# Altium footprint library Package_DIP.PcbLib: 281 footprints (part 13 of 18)
Each footprint in its own frame and in the unit in brackets; x right, y up, seen from the top. Pads: shape width x height; smd on the part's side, far side on the other; paste and mask are expansions set on the pad; w line width, h text height; cw(c..) or ccw(c..) is an arc to the next point about the centre after c.
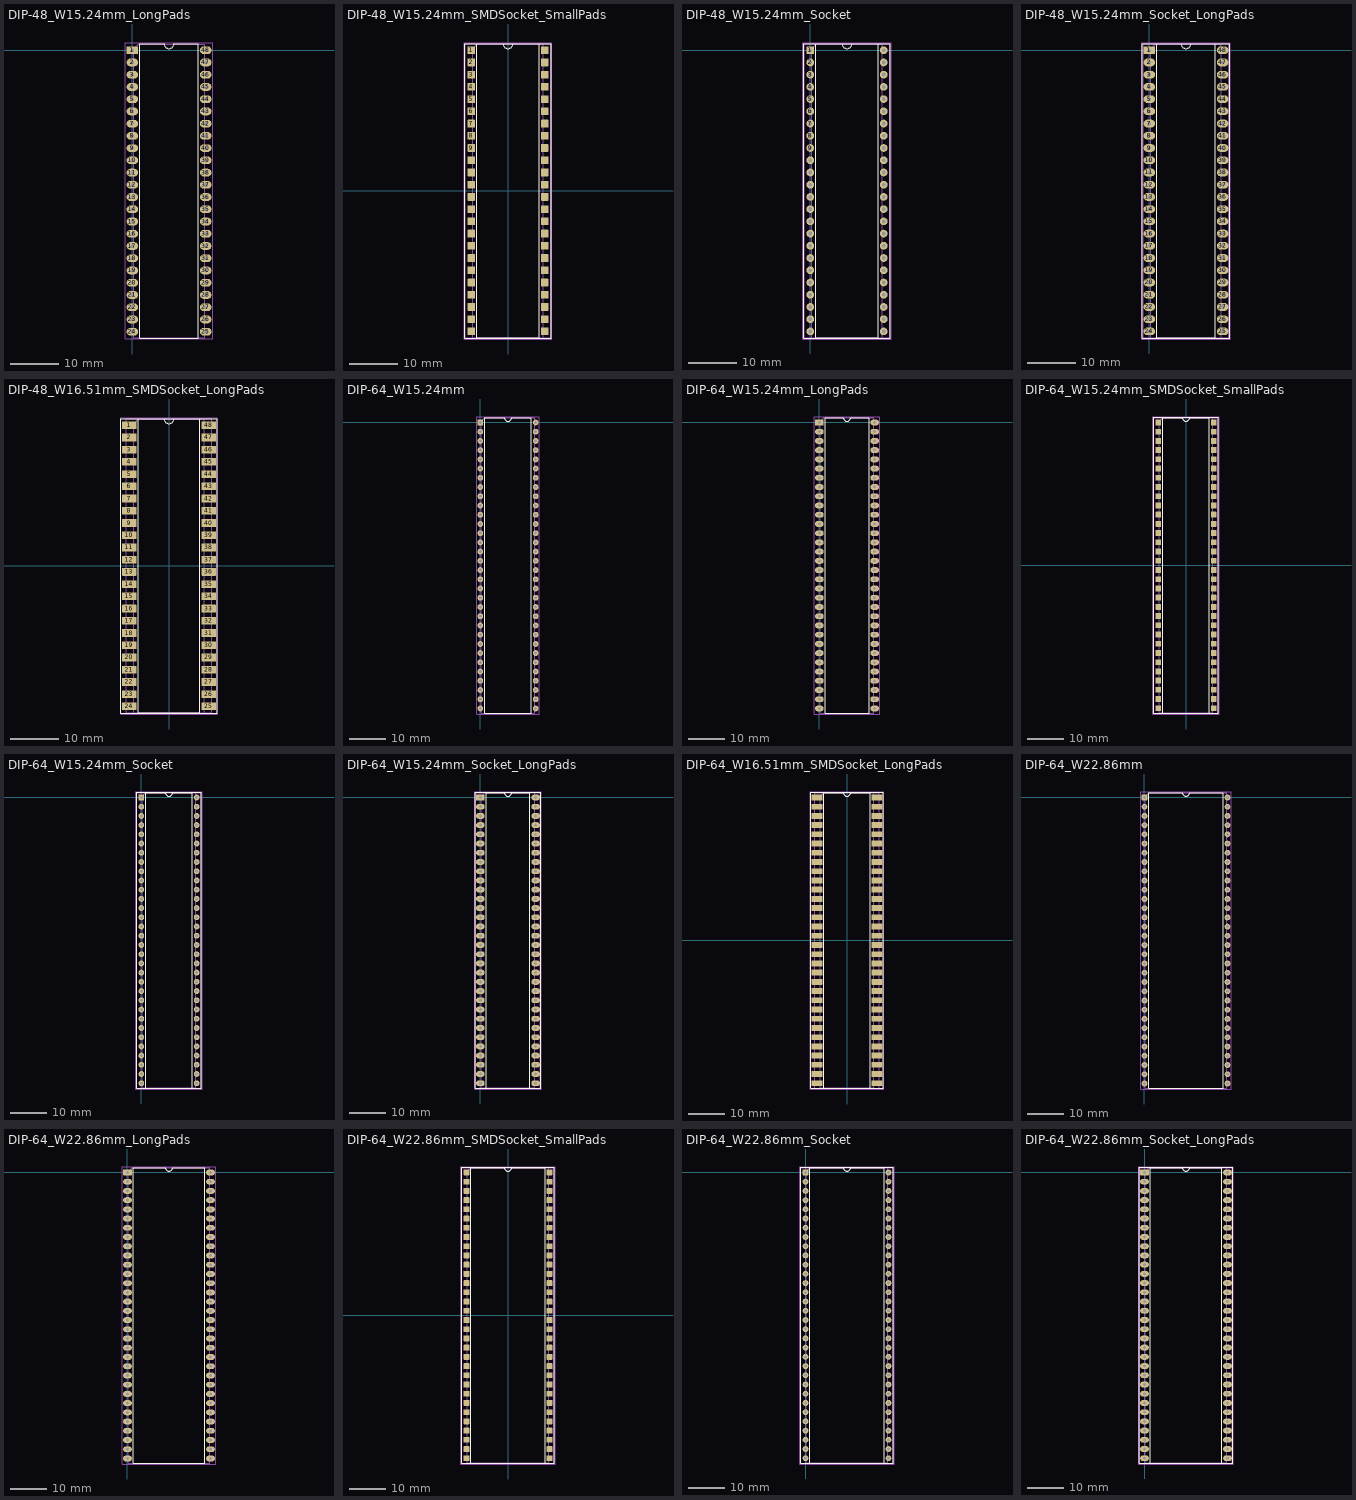
[diagram p12: the footprints below, top view; thin cyan lines are the x and y axes]

## DIP-48_W15.24mm_LongPads [mm]
pads (48):
  rrect16% 2.4x1.6 hole 0.8: 1(0,0)
  rrect100% 2.4x1.6 hole 0.8: 2(0,-2.54) 3(0,-5.08) 4(0,-7.62) 5(0,-10.16) 6(0,-12.7) 7(0,-15.24) 8(0,-17.78) 9(0,-20.32) 10(0,-22.86) 11(0,-25.4) 12(0,-27.94) 13(0,-30.48) 14(0,-33.02) 15(0,-35.56) 16(0,-38.1) 17(0,-40.64) 18(0,-43.18) 19(0,-45.72) 20(0,-48.26) 21(0,-50.8) 22(0,-53.34) 23(0,-55.88) 24(0,-58.42) 25(15.24,-58.42) 26(15.24,-55.88) 27(15.24,-53.34) 28(15.24,-50.8) 29(15.24,-48.26) 30(15.24,-45.72) 31(15.24,-43.18) 32(15.24,-40.64) 33(15.24,-38.1) 34(15.24,-35.56) 35(15.24,-33.02) 36(15.24,-30.48) 37(15.24,-27.94) 38(15.24,-25.4) 39(15.24,-22.86) 40(15.24,-20.32) 41(15.24,-17.78) 42(15.24,-15.24) 43(15.24,-12.7) 44(15.24,-10.16) 45(15.24,-7.62) 46(15.24,-5.08) 47(15.24,-2.54) 48(15.24,0)
F.SilkS:
  lines w0.254: 1.56,-59.75 13.68,-59.75 13.68,1.33 8.62,1.33 cw(c7.62,1.33) 6.62,1.33 1.56,1.33 1.56,-59.75
Top Assembly:
  lines w0.254: 0.255,-59.69 14.985,-59.69 14.985,1.27 1.255,1.27 0.255,0.27 0.255,-59.69
  text "'.Designator'" at 8.46,-33.257 h1
Top Courtyard:
  lines w0.254: -1.46,-59.94 16.69,-59.94 16.69,1.53 -1.46,1.53 -1.46,-59.94
Top Designator:
  text ".Designator" at -0.003,-29.713 h1.52

## DIP-48_W15.24mm_SMDSocket_SmallPads [mm]
pads (48):
  rrect16% 1.6x1.6 smd: 1(-7.62,29.21) 2(-7.62,26.67) 3(-7.62,24.13) 4(-7.62,21.59) 5(-7.62,19.05) 6(-7.62,16.51) 7(-7.62,13.97) 8(-7.62,11.43) 9(-7.62,8.89) 10(-7.62,6.35) 11(-7.62,3.81) 12(-7.62,1.27) 13(-7.62,-1.27) 14(-7.62,-3.81) 15(-7.62,-6.35) 16(-7.62,-8.89) 17(-7.62,-11.43) 18(-7.62,-13.97) 19(-7.62,-16.51) 20(-7.62,-19.05) 21(-7.62,-21.59) 22(-7.62,-24.13) 23(-7.62,-26.67) 24(-7.62,-29.21) 25(7.62,-29.21) 26(7.62,-26.67) 27(7.62,-24.13) 28(7.62,-21.59) 29(7.62,-19.05) 30(7.62,-16.51) 31(7.62,-13.97) 32(7.62,-11.43) 33(7.62,-8.89) 34(7.62,-6.35) 35(7.62,-3.81) 36(7.62,-1.27) 37(7.62,1.27) 38(7.62,3.81) 39(7.62,6.35) 40(7.62,8.89) 41(7.62,11.43) 42(7.62,13.97) 43(7.62,16.51) 44(7.62,19.05) 45(7.62,21.59) 46(7.62,24.13) 47(7.62,26.67) 48(7.62,29.21)
F.SilkS:
  lines w0.254: -8.95,-30.6 8.95,-30.6 8.95,30.6 -8.95,30.6 -8.95,-30.6 ; -6.46,-30.54 6.46,-30.54 6.46,30.54 1,30.54 cw(c0,30.54) -1,30.54 -6.46,30.54 -6.46,-30.54
Top Assembly:
  lines w0.254: -8.89,-30.54 8.89,-30.54 8.89,30.54 -8.89,30.54 -8.89,-30.54 ; -7.365,-30.48 7.365,-30.48 7.365,30.48 -6.365,30.48 -7.365,29.48 -7.365,-30.48
  text "'.Designator'" at 0.84,-4.047 h1
Top Courtyard:
  lines w0.254: -9.14,-30.79 9.14,-30.79 9.14,30.79 -9.14,30.79 -9.14,-30.79
Top Designator:
  text ".Designator" at -7.618,-0.508 h1.52

## DIP-48_W15.24mm_Socket [mm]
pads (48):
  rrect16% 1.6x1.6 hole 0.8: 1(0,0)
  round 1.6 hole 0.8: 2(0,-2.54) 3(0,-5.08) 4(0,-7.62) 5(0,-10.16) 6(0,-12.7) 7(0,-15.24) 8(0,-17.78) 9(0,-20.32) 10(0,-22.86) 11(0,-25.4) 12(0,-27.94) 13(0,-30.48) 14(0,-33.02) 15(0,-35.56) 16(0,-38.1) 17(0,-40.64) 18(0,-43.18) 19(0,-45.72) 20(0,-48.26) 21(0,-50.8) 22(0,-53.34) 23(0,-55.88) 24(0,-58.42) 25(15.24,-58.42) 26(15.24,-55.88) 27(15.24,-53.34) 28(15.24,-50.8) 29(15.24,-48.26) 30(15.24,-45.72) 31(15.24,-43.18) 32(15.24,-40.64) 33(15.24,-38.1) 34(15.24,-35.56) 35(15.24,-33.02) 36(15.24,-30.48) 37(15.24,-27.94) 38(15.24,-25.4) 39(15.24,-22.86) 40(15.24,-20.32) 41(15.24,-17.78) 42(15.24,-15.24) 43(15.24,-12.7) 44(15.24,-10.16) 45(15.24,-7.62) 46(15.24,-5.08) 47(15.24,-2.54) 48(15.24,0)
F.SilkS:
  lines w0.254: -1.33,-59.81 16.57,-59.81 16.57,1.39 -1.33,1.39 -1.33,-59.81 ; 1.16,-59.75 14.08,-59.75 14.08,1.33 8.62,1.33 cw(c7.62,1.33) 6.62,1.33 1.16,1.33 1.16,-59.75
Top Assembly:
  lines w0.254: -1.27,-59.75 16.51,-59.75 16.51,1.33 -1.27,1.33 -1.27,-59.75 ; 0.255,-59.69 14.985,-59.69 14.985,1.27 1.255,1.27 0.255,0.27 0.255,-59.69
  text "'.Designator'" at 8.46,-33.257 h1
Top Courtyard:
  lines w0.254: -1.53,-60 16.77,-60 16.77,1.59 -1.53,1.59 -1.53,-60
Top Designator:
  text ".Designator" at 0.002,-29.713 h1.52

## DIP-48_W15.24mm_Socket_LongPads [mm]
pads (48):
  rrect16% 2.4x1.6 hole 0.8: 1(0,0)
  rrect100% 2.4x1.6 hole 0.8: 2(0,-2.54) 3(0,-5.08) 4(0,-7.62) 5(0,-10.16) 6(0,-12.7) 7(0,-15.24) 8(0,-17.78) 9(0,-20.32) 10(0,-22.86) 11(0,-25.4) 12(0,-27.94) 13(0,-30.48) 14(0,-33.02) 15(0,-35.56) 16(0,-38.1) 17(0,-40.64) 18(0,-43.18) 19(0,-45.72) 20(0,-48.26) 21(0,-50.8) 22(0,-53.34) 23(0,-55.88) 24(0,-58.42) 25(15.24,-58.42) 26(15.24,-55.88) 27(15.24,-53.34) 28(15.24,-50.8) 29(15.24,-48.26) 30(15.24,-45.72) 31(15.24,-43.18) 32(15.24,-40.64) 33(15.24,-38.1) 34(15.24,-35.56) 35(15.24,-33.02) 36(15.24,-30.48) 37(15.24,-27.94) 38(15.24,-25.4) 39(15.24,-22.86) 40(15.24,-20.32) 41(15.24,-17.78) 42(15.24,-15.24) 43(15.24,-12.7) 44(15.24,-10.16) 45(15.24,-7.62) 46(15.24,-5.08) 47(15.24,-2.54) 48(15.24,0)
F.SilkS:
  lines w0.254: -1.44,-59.81 16.68,-59.81 16.68,1.39 -1.44,1.39 -1.44,-59.81 ; 1.56,-59.75 13.68,-59.75 13.68,1.33 8.62,1.33 cw(c7.62,1.33) 6.62,1.33 1.56,1.33 1.56,-59.75
Top Assembly:
  lines w0.254: -1.27,-59.75 16.51,-59.75 16.51,1.33 -1.27,1.33 -1.27,-59.75 ; 0.255,-59.69 14.985,-59.69 14.985,1.27 1.255,1.27 0.255,0.27 0.255,-59.69
  text "'.Designator'" at 8.46,-33.257 h1
Top Courtyard:
  lines w0.254: -1.53,-60 16.77,-60 16.77,1.59 -1.53,1.59 -1.53,-60
Top Designator:
  text ".Designator" at 0.002,-29.713 h1.52

## DIP-48_W16.51mm_SMDSocket_LongPads [mm]
pads (48):
  rrect16% 3.1x1.6 smd: 1(-8.255,29.21) 2(-8.255,26.67) 3(-8.255,24.13) 4(-8.255,21.59) 5(-8.255,19.05) 6(-8.255,16.51) 7(-8.255,13.97) 8(-8.255,11.43) 9(-8.255,8.89) 10(-8.255,6.35) 11(-8.255,3.81) 12(-8.255,1.27) 13(-8.255,-1.27) 14(-8.255,-3.81) 15(-8.255,-6.35) 16(-8.255,-8.89) 17(-8.255,-11.43) 18(-8.255,-13.97) 19(-8.255,-16.51) 20(-8.255,-19.05) 21(-8.255,-21.59) 22(-8.255,-24.13) 23(-8.255,-26.67) 24(-8.255,-29.21) 25(8.255,-29.21) 26(8.255,-26.67) 27(8.255,-24.13) 28(8.255,-21.59) 29(8.255,-19.05) 30(8.255,-16.51) 31(8.255,-13.97) 32(8.255,-11.43) 33(8.255,-8.89) 34(8.255,-6.35) 35(8.255,-3.81) 36(8.255,-1.27) 37(8.255,1.27) 38(8.255,3.81) 39(8.255,6.35) 40(8.255,8.89) 41(8.255,11.43) 42(8.255,13.97) 43(8.255,16.51) 44(8.255,19.05) 45(8.255,21.59) 46(8.255,24.13) 47(8.255,26.67) 48(8.255,29.21)
F.SilkS:
  lines w0.254: -10.045,-30.6 10.045,-30.6 10.045,30.6 -10.045,30.6 -10.045,-30.6 ; -6.345,-30.54 6.345,-30.54 6.345,30.54 1,30.54 cw(c0,30.54) -1,30.54 -6.345,30.54 -6.345,-30.54
Top Assembly:
  lines w0.254: -8.89,-30.54 8.89,-30.54 8.89,30.54 -8.89,30.54 -8.89,-30.54 ; -7.365,-30.48 7.365,-30.48 7.365,30.48 -6.365,30.48 -7.365,29.48 -7.365,-30.48
  text "'.Designator'" at 0.84,-4.047 h1
Top Courtyard:
  lines w0.254: -10.06,-30.79 10.06,-30.79 10.06,30.79 -10.06,30.79 -10.06,-30.79
Top Designator:
  text ".Designator" at -7.618,-0.508 h1.52

## DIP-64_W15.24mm [mm]
pads (64):
  rrect16% 1.6x1.6 hole 0.8: 1(0,0)
  round 1.6 hole 0.8: 2(0,-2.54) 3(0,-5.08) 4(0,-7.62) 5(0,-10.16) 6(0,-12.7) 7(0,-15.24) 8(0,-17.78) 9(0,-20.32) 10(0,-22.86) 11(0,-25.4) 12(0,-27.94) 13(0,-30.48) 14(0,-33.02) 15(0,-35.56) 16(0,-38.1) 17(0,-40.64) 18(0,-43.18) 19(0,-45.72) 20(0,-48.26) 21(0,-50.8) 22(0,-53.34) 23(0,-55.88) 24(0,-58.42) 25(0,-60.96) 26(0,-63.5) 27(0,-66.04) 28(0,-68.58) 29(0,-71.12) 30(0,-73.66) 31(0,-76.2) 32(0,-78.74) 33(15.24,-78.74) 34(15.24,-76.2) 35(15.24,-73.66) 36(15.24,-71.12) 37(15.24,-68.58) 38(15.24,-66.04) 39(15.24,-63.5) 40(15.24,-60.96) 41(15.24,-58.42) 42(15.24,-55.88) 43(15.24,-53.34) 44(15.24,-50.8) 45(15.24,-48.26) 46(15.24,-45.72) 47(15.24,-43.18) 48(15.24,-40.64) 49(15.24,-38.1) 50(15.24,-35.56) 51(15.24,-33.02) 52(15.24,-30.48) 53(15.24,-27.94) 54(15.24,-25.4) 55(15.24,-22.86) 56(15.24,-20.32) 57(15.24,-17.78) 58(15.24,-15.24) 59(15.24,-12.7) 60(15.24,-10.16) 61(15.24,-7.62) 62(15.24,-5.08) 63(15.24,-2.54) 64(15.24,0)
F.SilkS:
  lines w0.254: 1.16,-80.07 14.08,-80.07 14.08,1.33 8.62,1.33 cw(c7.62,1.33) 6.62,1.33 1.16,1.33 1.16,-80.07
Top Assembly:
  lines w0.254: 0.255,-80.01 14.985,-80.01 14.985,1.27 1.255,1.27 0.255,0.27 0.255,-80.01
  text "'.Designator'" at 8.46,-43.417 h1
Top Courtyard:
  lines w0.254: -1.05,-80.26 16.29,-80.26 16.29,1.52 -1.05,1.52 -1.05,-80.26
Top Designator:
  text ".Designator" at 0.002,-39.878 h1.52

## DIP-64_W15.24mm_LongPads [mm]
pads (64):
  rrect16% 2.4x1.6 hole 0.8: 1(0,0)
  rrect100% 2.4x1.6 hole 0.8: 2(0,-2.54) 3(0,-5.08) 4(0,-7.62) 5(0,-10.16) 6(0,-12.7) 7(0,-15.24) 8(0,-17.78) 9(0,-20.32) 10(0,-22.86) 11(0,-25.4) 12(0,-27.94) 13(0,-30.48) 14(0,-33.02) 15(0,-35.56) 16(0,-38.1) 17(0,-40.64) 18(0,-43.18) 19(0,-45.72) 20(0,-48.26) 21(0,-50.8) 22(0,-53.34) 23(0,-55.88) 24(0,-58.42) 25(0,-60.96) 26(0,-63.5) 27(0,-66.04) 28(0,-68.58) 29(0,-71.12) 30(0,-73.66) 31(0,-76.2) 32(0,-78.74) 33(15.24,-78.74) 34(15.24,-76.2) 35(15.24,-73.66) 36(15.24,-71.12) 37(15.24,-68.58) 38(15.24,-66.04) 39(15.24,-63.5) 40(15.24,-60.96) 41(15.24,-58.42) 42(15.24,-55.88) 43(15.24,-53.34) 44(15.24,-50.8) 45(15.24,-48.26) 46(15.24,-45.72) 47(15.24,-43.18) 48(15.24,-40.64) 49(15.24,-38.1) 50(15.24,-35.56) 51(15.24,-33.02) 52(15.24,-30.48) 53(15.24,-27.94) 54(15.24,-25.4) 55(15.24,-22.86) 56(15.24,-20.32) 57(15.24,-17.78) 58(15.24,-15.24) 59(15.24,-12.7) 60(15.24,-10.16) 61(15.24,-7.62) 62(15.24,-5.08) 63(15.24,-2.54) 64(15.24,0)
F.SilkS:
  lines w0.254: 1.56,-80.07 13.68,-80.07 13.68,1.33 8.62,1.33 cw(c7.62,1.33) 6.62,1.33 1.56,1.33 1.56,-80.07
Top Assembly:
  lines w0.254: 0.255,-80.01 14.985,-80.01 14.985,1.27 1.255,1.27 0.255,0.27 0.255,-80.01
  text "'.Designator'" at 8.46,-43.417 h1
Top Courtyard:
  lines w0.254: -1.46,-80.26 16.69,-80.26 16.69,1.52 -1.46,1.52 -1.46,-80.26
Top Designator:
  text ".Designator" at -0.003,-39.878 h1.52

## DIP-64_W15.24mm_SMDSocket_SmallPads [mm]
pads (64):
  rrect16% 1.6x1.6 smd: 1(-7.62,39.37) 2(-7.62,36.83) 3(-7.62,34.29) 4(-7.62,31.75) 5(-7.62,29.21) 6(-7.62,26.67) 7(-7.62,24.13) 8(-7.62,21.59) 9(-7.62,19.05) 10(-7.62,16.51) 11(-7.62,13.97) 12(-7.62,11.43) 13(-7.62,8.89) 14(-7.62,6.35) 15(-7.62,3.81) 16(-7.62,1.27) 17(-7.62,-1.27) 18(-7.62,-3.81) 19(-7.62,-6.35) 20(-7.62,-8.89) 21(-7.62,-11.43) 22(-7.62,-13.97) 23(-7.62,-16.51) 24(-7.62,-19.05) 25(-7.62,-21.59) 26(-7.62,-24.13) 27(-7.62,-26.67) 28(-7.62,-29.21) 29(-7.62,-31.75) 30(-7.62,-34.29) 31(-7.62,-36.83) 32(-7.62,-39.37) 33(7.62,-39.37) 34(7.62,-36.83) 35(7.62,-34.29) 36(7.62,-31.75) 37(7.62,-29.21) 38(7.62,-26.67) 39(7.62,-24.13) 40(7.62,-21.59) 41(7.62,-19.05) 42(7.62,-16.51) 43(7.62,-13.97) 44(7.62,-11.43) 45(7.62,-8.89) 46(7.62,-6.35) 47(7.62,-3.81) 48(7.62,-1.27) 49(7.62,1.27) 50(7.62,3.81) 51(7.62,6.35) 52(7.62,8.89) 53(7.62,11.43) 54(7.62,13.97) 55(7.62,16.51) 56(7.62,19.05) 57(7.62,21.59) 58(7.62,24.13) 59(7.62,26.67) 60(7.62,29.21) 61(7.62,31.75) 62(7.62,34.29) 63(7.62,36.83) 64(7.62,39.37)
F.SilkS:
  lines w0.254: -8.95,-40.76 8.95,-40.76 8.95,40.76 -8.95,40.76 -8.95,-40.76 ; -6.46,-40.7 6.46,-40.7 6.46,40.7 1,40.7 cw(c0,40.7) -1,40.7 -6.46,40.7 -6.46,-40.7
Top Assembly:
  lines w0.254: -8.89,-40.7 8.89,-40.7 8.89,40.7 -8.89,40.7 -8.89,-40.7 ; -7.365,-40.64 7.365,-40.64 7.365,40.64 -6.365,40.64 -7.365,39.64 -7.365,-40.64
  text "'.Designator'" at 0.84,-4.047 h1
Top Courtyard:
  lines w0.254: -9.14,-40.95 9.14,-40.95 9.14,40.95 -9.14,40.95 -9.14,-40.95
Top Designator:
  text ".Designator" at -7.618,-0.508 h1.52

## DIP-64_W15.24mm_Socket [mm]
pads (64):
  rrect16% 1.6x1.6 hole 0.8: 1(0,0)
  round 1.6 hole 0.8: 2(0,-2.54) 3(0,-5.08) 4(0,-7.62) 5(0,-10.16) 6(0,-12.7) 7(0,-15.24) 8(0,-17.78) 9(0,-20.32) 10(0,-22.86) 11(0,-25.4) 12(0,-27.94) 13(0,-30.48) 14(0,-33.02) 15(0,-35.56) 16(0,-38.1) 17(0,-40.64) 18(0,-43.18) 19(0,-45.72) 20(0,-48.26) 21(0,-50.8) 22(0,-53.34) 23(0,-55.88) 24(0,-58.42) 25(0,-60.96) 26(0,-63.5) 27(0,-66.04) 28(0,-68.58) 29(0,-71.12) 30(0,-73.66) 31(0,-76.2) 32(0,-78.74) 33(15.24,-78.74) 34(15.24,-76.2) 35(15.24,-73.66) 36(15.24,-71.12) 37(15.24,-68.58) 38(15.24,-66.04) 39(15.24,-63.5) 40(15.24,-60.96) 41(15.24,-58.42) 42(15.24,-55.88) 43(15.24,-53.34) 44(15.24,-50.8) 45(15.24,-48.26) 46(15.24,-45.72) 47(15.24,-43.18) 48(15.24,-40.64) 49(15.24,-38.1) 50(15.24,-35.56) 51(15.24,-33.02) 52(15.24,-30.48) 53(15.24,-27.94) 54(15.24,-25.4) 55(15.24,-22.86) 56(15.24,-20.32) 57(15.24,-17.78) 58(15.24,-15.24) 59(15.24,-12.7) 60(15.24,-10.16) 61(15.24,-7.62) 62(15.24,-5.08) 63(15.24,-2.54) 64(15.24,0)
F.SilkS:
  lines w0.254: -1.33,-80.13 16.57,-80.13 16.57,1.39 -1.33,1.39 -1.33,-80.13 ; 1.16,-80.07 14.08,-80.07 14.08,1.33 8.62,1.33 cw(c7.62,1.33) 6.62,1.33 1.16,1.33 1.16,-80.07
Top Assembly:
  lines w0.254: -1.27,-80.07 16.51,-80.07 16.51,1.33 -1.27,1.33 -1.27,-80.07 ; 0.255,-80.01 14.985,-80.01 14.985,1.27 1.255,1.27 0.255,0.27 0.255,-80.01
  text "'.Designator'" at 8.46,-43.417 h1
Top Courtyard:
  lines w0.254: -1.53,-80.32 16.77,-80.32 16.77,1.58 -1.53,1.58 -1.53,-80.32
Top Designator:
  text ".Designator" at 0.002,-39.878 h1.52

## DIP-64_W15.24mm_Socket_LongPads [mm]
pads (64):
  rrect16% 2.4x1.6 hole 0.8: 1(0,0)
  rrect100% 2.4x1.6 hole 0.8: 2(0,-2.54) 3(0,-5.08) 4(0,-7.62) 5(0,-10.16) 6(0,-12.7) 7(0,-15.24) 8(0,-17.78) 9(0,-20.32) 10(0,-22.86) 11(0,-25.4) 12(0,-27.94) 13(0,-30.48) 14(0,-33.02) 15(0,-35.56) 16(0,-38.1) 17(0,-40.64) 18(0,-43.18) 19(0,-45.72) 20(0,-48.26) 21(0,-50.8) 22(0,-53.34) 23(0,-55.88) 24(0,-58.42) 25(0,-60.96) 26(0,-63.5) 27(0,-66.04) 28(0,-68.58) 29(0,-71.12) 30(0,-73.66) 31(0,-76.2) 32(0,-78.74) 33(15.24,-78.74) 34(15.24,-76.2) 35(15.24,-73.66) 36(15.24,-71.12) 37(15.24,-68.58) 38(15.24,-66.04) 39(15.24,-63.5) 40(15.24,-60.96) 41(15.24,-58.42) 42(15.24,-55.88) 43(15.24,-53.34) 44(15.24,-50.8) 45(15.24,-48.26) 46(15.24,-45.72) 47(15.24,-43.18) 48(15.24,-40.64) 49(15.24,-38.1) 50(15.24,-35.56) 51(15.24,-33.02) 52(15.24,-30.48) 53(15.24,-27.94) 54(15.24,-25.4) 55(15.24,-22.86) 56(15.24,-20.32) 57(15.24,-17.78) 58(15.24,-15.24) 59(15.24,-12.7) 60(15.24,-10.16) 61(15.24,-7.62) 62(15.24,-5.08) 63(15.24,-2.54) 64(15.24,0)
F.SilkS:
  lines w0.254: -1.44,-80.13 16.68,-80.13 16.68,1.39 -1.44,1.39 -1.44,-80.13 ; 1.56,-80.07 13.68,-80.07 13.68,1.33 8.62,1.33 cw(c7.62,1.33) 6.62,1.33 1.56,1.33 1.56,-80.07
Top Assembly:
  lines w0.254: -1.27,-80.07 16.51,-80.07 16.51,1.33 -1.27,1.33 -1.27,-80.07 ; 0.255,-80.01 14.985,-80.01 14.985,1.27 1.255,1.27 0.255,0.27 0.255,-80.01
  text "'.Designator'" at 8.46,-43.417 h1
Top Courtyard:
  lines w0.254: -1.53,-80.32 16.77,-80.32 16.77,1.58 -1.53,1.58 -1.53,-80.32
Top Designator:
  text ".Designator" at 0.002,-39.878 h1.52

## DIP-64_W16.51mm_SMDSocket_LongPads [mm]
pads (64):
  rrect16% 3.1x1.6 smd: 1(-8.255,39.37) 2(-8.255,36.83) 3(-8.255,34.29) 4(-8.255,31.75) 5(-8.255,29.21) 6(-8.255,26.67) 7(-8.255,24.13) 8(-8.255,21.59) 9(-8.255,19.05) 10(-8.255,16.51) 11(-8.255,13.97) 12(-8.255,11.43) 13(-8.255,8.89) 14(-8.255,6.35) 15(-8.255,3.81) 16(-8.255,1.27) 17(-8.255,-1.27) 18(-8.255,-3.81) 19(-8.255,-6.35) 20(-8.255,-8.89) 21(-8.255,-11.43) 22(-8.255,-13.97) 23(-8.255,-16.51) 24(-8.255,-19.05) 25(-8.255,-21.59) 26(-8.255,-24.13) 27(-8.255,-26.67) 28(-8.255,-29.21) 29(-8.255,-31.75) 30(-8.255,-34.29) 31(-8.255,-36.83) 32(-8.255,-39.37) 33(8.255,-39.37) 34(8.255,-36.83) 35(8.255,-34.29) 36(8.255,-31.75) 37(8.255,-29.21) 38(8.255,-26.67) 39(8.255,-24.13) 40(8.255,-21.59) 41(8.255,-19.05) 42(8.255,-16.51) 43(8.255,-13.97) 44(8.255,-11.43) 45(8.255,-8.89) 46(8.255,-6.35) 47(8.255,-3.81) 48(8.255,-1.27) 49(8.255,1.27) 50(8.255,3.81) 51(8.255,6.35) 52(8.255,8.89) 53(8.255,11.43) 54(8.255,13.97) 55(8.255,16.51) 56(8.255,19.05) 57(8.255,21.59) 58(8.255,24.13) 59(8.255,26.67) 60(8.255,29.21) 61(8.255,31.75) 62(8.255,34.29) 63(8.255,36.83) 64(8.255,39.37)
F.SilkS:
  lines w0.254: -10.045,-40.76 10.045,-40.76 10.045,40.76 -10.045,40.76 -10.045,-40.76 ; -6.345,-40.7 6.345,-40.7 6.345,40.7 1,40.7 cw(c0,40.7) -1,40.7 -6.345,40.7 -6.345,-40.7
Top Assembly:
  lines w0.254: -8.89,-40.7 8.89,-40.7 8.89,40.7 -8.89,40.7 -8.89,-40.7 ; -7.365,-40.64 7.365,-40.64 7.365,40.64 -6.365,40.64 -7.365,39.64 -7.365,-40.64
  text "'.Designator'" at 0.84,-4.047 h1
Top Courtyard:
  lines w0.254: -10.06,-40.95 10.06,-40.95 10.06,40.95 -10.06,40.95 -10.06,-40.95
Top Designator:
  text ".Designator" at -7.618,-0.508 h1.52

## DIP-64_W22.86mm [mm]
pads (64):
  rrect16% 1.6x1.6 hole 0.8: 1(0,0)
  round 1.6 hole 0.8: 2(0,-2.54) 3(0,-5.08) 4(0,-7.62) 5(0,-10.16) 6(0,-12.7) 7(0,-15.24) 8(0,-17.78) 9(0,-20.32) 10(0,-22.86) 11(0,-25.4) 12(0,-27.94) 13(0,-30.48) 14(0,-33.02) 15(0,-35.56) 16(0,-38.1) 17(0,-40.64) 18(0,-43.18) 19(0,-45.72) 20(0,-48.26) 21(0,-50.8) 22(0,-53.34) 23(0,-55.88) 24(0,-58.42) 25(0,-60.96) 26(0,-63.5) 27(0,-66.04) 28(0,-68.58) 29(0,-71.12) 30(0,-73.66) 31(0,-76.2) 32(0,-78.74) 33(22.86,-78.74) 34(22.86,-76.2) 35(22.86,-73.66) 36(22.86,-71.12) 37(22.86,-68.58) 38(22.86,-66.04) 39(22.86,-63.5) 40(22.86,-60.96) 41(22.86,-58.42) 42(22.86,-55.88) 43(22.86,-53.34) 44(22.86,-50.8) 45(22.86,-48.26) 46(22.86,-45.72) 47(22.86,-43.18) 48(22.86,-40.64) 49(22.86,-38.1) 50(22.86,-35.56) 51(22.86,-33.02) 52(22.86,-30.48) 53(22.86,-27.94) 54(22.86,-25.4) 55(22.86,-22.86) 56(22.86,-20.32) 57(22.86,-17.78) 58(22.86,-15.24) 59(22.86,-12.7) 60(22.86,-10.16) 61(22.86,-7.62) 62(22.86,-5.08) 63(22.86,-2.54) 64(22.86,0)
F.SilkS:
  lines w0.254: 1.16,-80.07 21.7,-80.07 21.7,1.33 12.43,1.33 cw(c11.43,1.33) 10.43,1.33 1.16,1.33 1.16,-80.07
Top Assembly:
  lines w0.254: 0.255,-80.01 22.605,-80.01 22.605,1.27 1.255,1.27 0.255,0.27 0.255,-80.01
  text "'.Designator'" at 12.27,-43.417 h1
Top Courtyard:
  lines w0.254: -1.06,-80.26 23.91,-80.26 23.91,1.52 -1.06,1.52 -1.06,-80.26
Top Designator:
  text ".Designator" at 3.807,-39.878 h1.52

## DIP-64_W22.86mm_LongPads [mm]
pads (64):
  rrect16% 2.4x1.6 hole 0.8: 1(0,0)
  rrect100% 2.4x1.6 hole 0.8: 2(0,-2.54) 3(0,-5.08) 4(0,-7.62) 5(0,-10.16) 6(0,-12.7) 7(0,-15.24) 8(0,-17.78) 9(0,-20.32) 10(0,-22.86) 11(0,-25.4) 12(0,-27.94) 13(0,-30.48) 14(0,-33.02) 15(0,-35.56) 16(0,-38.1) 17(0,-40.64) 18(0,-43.18) 19(0,-45.72) 20(0,-48.26) 21(0,-50.8) 22(0,-53.34) 23(0,-55.88) 24(0,-58.42) 25(0,-60.96) 26(0,-63.5) 27(0,-66.04) 28(0,-68.58) 29(0,-71.12) 30(0,-73.66) 31(0,-76.2) 32(0,-78.74) 33(22.86,-78.74) 34(22.86,-76.2) 35(22.86,-73.66) 36(22.86,-71.12) 37(22.86,-68.58) 38(22.86,-66.04) 39(22.86,-63.5) 40(22.86,-60.96) 41(22.86,-58.42) 42(22.86,-55.88) 43(22.86,-53.34) 44(22.86,-50.8) 45(22.86,-48.26) 46(22.86,-45.72) 47(22.86,-43.18) 48(22.86,-40.64) 49(22.86,-38.1) 50(22.86,-35.56) 51(22.86,-33.02) 52(22.86,-30.48) 53(22.86,-27.94) 54(22.86,-25.4) 55(22.86,-22.86) 56(22.86,-20.32) 57(22.86,-17.78) 58(22.86,-15.24) 59(22.86,-12.7) 60(22.86,-10.16) 61(22.86,-7.62) 62(22.86,-5.08) 63(22.86,-2.54) 64(22.86,0)
F.SilkS:
  lines w0.254: 1.56,-80.07 21.3,-80.07 21.3,1.33 12.43,1.33 cw(c11.43,1.33) 10.43,1.33 1.56,1.33 1.56,-80.07
Top Assembly:
  lines w0.254: 0.255,-80.01 22.605,-80.01 22.605,1.27 1.255,1.27 0.255,0.27 0.255,-80.01
  text "'.Designator'" at 12.27,-43.417 h1
Top Courtyard:
  lines w0.254: -1.45,-80.26 24.31,-80.26 24.31,1.52 -1.45,1.52 -1.45,-80.26
Top Designator:
  text ".Designator" at 3.812,-39.878 h1.52

## DIP-64_W22.86mm_SMDSocket_SmallPads [mm]
pads (64):
  rrect16% 1.6x1.6 smd: 1(-11.43,39.37) 2(-11.43,36.83) 3(-11.43,34.29) 4(-11.43,31.75) 5(-11.43,29.21) 6(-11.43,26.67) 7(-11.43,24.13) 8(-11.43,21.59) 9(-11.43,19.05) 10(-11.43,16.51) 11(-11.43,13.97) 12(-11.43,11.43) 13(-11.43,8.89) 14(-11.43,6.35) 15(-11.43,3.81) 16(-11.43,1.27) 17(-11.43,-1.27) 18(-11.43,-3.81) 19(-11.43,-6.35) 20(-11.43,-8.89) 21(-11.43,-11.43) 22(-11.43,-13.97) 23(-11.43,-16.51) 24(-11.43,-19.05) 25(-11.43,-21.59) 26(-11.43,-24.13) 27(-11.43,-26.67) 28(-11.43,-29.21) 29(-11.43,-31.75) 30(-11.43,-34.29) 31(-11.43,-36.83) 32(-11.43,-39.37) 33(11.43,-39.37) 34(11.43,-36.83) 35(11.43,-34.29) 36(11.43,-31.75) 37(11.43,-29.21) 38(11.43,-26.67) 39(11.43,-24.13) 40(11.43,-21.59) 41(11.43,-19.05) 42(11.43,-16.51) 43(11.43,-13.97) 44(11.43,-11.43) 45(11.43,-8.89) 46(11.43,-6.35) 47(11.43,-3.81) 48(11.43,-1.27) 49(11.43,1.27) 50(11.43,3.81) 51(11.43,6.35) 52(11.43,8.89) 53(11.43,11.43) 54(11.43,13.97) 55(11.43,16.51) 56(11.43,19.05) 57(11.43,21.59) 58(11.43,24.13) 59(11.43,26.67) 60(11.43,29.21) 61(11.43,31.75) 62(11.43,34.29) 63(11.43,36.83) 64(11.43,39.37)
F.SilkS:
  lines w0.254: -12.76,-40.76 12.76,-40.76 12.76,40.76 -12.76,40.76 -12.76,-40.76 ; -10.27,-40.7 10.27,-40.7 10.27,40.7 1,40.7 cw(c0,40.7) -1,40.7 -10.27,40.7 -10.27,-40.7
Top Assembly:
  lines w0.254: -12.7,-40.7 12.7,-40.7 12.7,40.7 -12.7,40.7 -12.7,-40.7 ; -11.175,-40.64 11.175,-40.64 11.175,40.64 -10.175,40.64 -11.175,39.64 -11.175,-40.64
  text "'.Designator'" at 0.84,-4.047 h1
Top Courtyard:
  lines w0.254: -12.95,-40.95 12.95,-40.95 12.95,40.95 -12.95,40.95 -12.95,-40.95
Top Designator:
  text ".Designator" at -7.618,-0.508 h1.52

## DIP-64_W22.86mm_Socket [mm]
pads (64):
  rrect16% 1.6x1.6 hole 0.8: 1(0,0)
  round 1.6 hole 0.8: 2(0,-2.54) 3(0,-5.08) 4(0,-7.62) 5(0,-10.16) 6(0,-12.7) 7(0,-15.24) 8(0,-17.78) 9(0,-20.32) 10(0,-22.86) 11(0,-25.4) 12(0,-27.94) 13(0,-30.48) 14(0,-33.02) 15(0,-35.56) 16(0,-38.1) 17(0,-40.64) 18(0,-43.18) 19(0,-45.72) 20(0,-48.26) 21(0,-50.8) 22(0,-53.34) 23(0,-55.88) 24(0,-58.42) 25(0,-60.96) 26(0,-63.5) 27(0,-66.04) 28(0,-68.58) 29(0,-71.12) 30(0,-73.66) 31(0,-76.2) 32(0,-78.74) 33(22.86,-78.74) 34(22.86,-76.2) 35(22.86,-73.66) 36(22.86,-71.12) 37(22.86,-68.58) 38(22.86,-66.04) 39(22.86,-63.5) 40(22.86,-60.96) 41(22.86,-58.42) 42(22.86,-55.88) 43(22.86,-53.34) 44(22.86,-50.8) 45(22.86,-48.26) 46(22.86,-45.72) 47(22.86,-43.18) 48(22.86,-40.64) 49(22.86,-38.1) 50(22.86,-35.56) 51(22.86,-33.02) 52(22.86,-30.48) 53(22.86,-27.94) 54(22.86,-25.4) 55(22.86,-22.86) 56(22.86,-20.32) 57(22.86,-17.78) 58(22.86,-15.24) 59(22.86,-12.7) 60(22.86,-10.16) 61(22.86,-7.62) 62(22.86,-5.08) 63(22.86,-2.54) 64(22.86,0)
F.SilkS:
  lines w0.254: -1.33,-80.13 24.19,-80.13 24.19,1.39 -1.33,1.39 -1.33,-80.13 ; 1.16,-80.07 21.7,-80.07 21.7,1.33 12.43,1.33 cw(c11.43,1.33) 10.43,1.33 1.16,1.33 1.16,-80.07
Top Assembly:
  lines w0.254: -1.27,-80.07 24.13,-80.07 24.13,1.33 -1.27,1.33 -1.27,-80.07 ; 0.255,-80.01 22.605,-80.01 22.605,1.27 1.255,1.27 0.255,0.27 0.255,-80.01
  text "'.Designator'" at 12.27,-43.417 h1
Top Courtyard:
  lines w0.254: -1.52,-80.32 24.38,-80.32 24.38,1.58 -1.52,1.58 -1.52,-80.32
Top Designator:
  text ".Designator" at 3.812,-39.878 h1.52

## DIP-64_W22.86mm_Socket_LongPads [mm]
pads (64):
  rrect16% 2.4x1.6 hole 0.8: 1(0,0)
  rrect100% 2.4x1.6 hole 0.8: 2(0,-2.54) 3(0,-5.08) 4(0,-7.62) 5(0,-10.16) 6(0,-12.7) 7(0,-15.24) 8(0,-17.78) 9(0,-20.32) 10(0,-22.86) 11(0,-25.4) 12(0,-27.94) 13(0,-30.48) 14(0,-33.02) 15(0,-35.56) 16(0,-38.1) 17(0,-40.64) 18(0,-43.18) 19(0,-45.72) 20(0,-48.26) 21(0,-50.8) 22(0,-53.34) 23(0,-55.88) 24(0,-58.42) 25(0,-60.96) 26(0,-63.5) 27(0,-66.04) 28(0,-68.58) 29(0,-71.12) 30(0,-73.66) 31(0,-76.2) 32(0,-78.74) 33(22.86,-78.74) 34(22.86,-76.2) 35(22.86,-73.66) 36(22.86,-71.12) 37(22.86,-68.58) 38(22.86,-66.04) 39(22.86,-63.5) 40(22.86,-60.96) 41(22.86,-58.42) 42(22.86,-55.88) 43(22.86,-53.34) 44(22.86,-50.8) 45(22.86,-48.26) 46(22.86,-45.72) 47(22.86,-43.18) 48(22.86,-40.64) 49(22.86,-38.1) 50(22.86,-35.56) 51(22.86,-33.02) 52(22.86,-30.48) 53(22.86,-27.94) 54(22.86,-25.4) 55(22.86,-22.86) 56(22.86,-20.32) 57(22.86,-17.78) 58(22.86,-15.24) 59(22.86,-12.7) 60(22.86,-10.16) 61(22.86,-7.62) 62(22.86,-5.08) 63(22.86,-2.54) 64(22.86,0)
F.SilkS:
  lines w0.254: -1.44,-80.13 24.3,-80.13 24.3,1.39 -1.44,1.39 -1.44,-80.13 ; 1.56,-80.07 21.3,-80.07 21.3,1.33 12.43,1.33 cw(c11.43,1.33) 10.43,1.33 1.56,1.33 1.56,-80.07
Top Assembly:
  lines w0.254: -1.27,-80.07 24.13,-80.07 24.13,1.33 -1.27,1.33 -1.27,-80.07 ; 0.255,-80.01 22.605,-80.01 22.605,1.27 1.255,1.27 0.255,0.27 0.255,-80.01
  text "'.Designator'" at 12.27,-43.417 h1
Top Courtyard:
  lines w0.254: -1.52,-80.32 24.38,-80.32 24.38,1.58 -1.52,1.58 -1.52,-80.32
Top Designator:
  text ".Designator" at 3.812,-39.878 h1.52